# Altium schematic symbol library TMP300.SchLib: 1 symbol
Pins are listed as number, name and electrical type; pins without a type are passive.

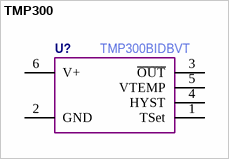
[diagram p0: symbol TMP300]

## TMP300
designator U?  Manufacturer Part Number: TMP300BIDBVT  (hidden comment: TMP300)
pins: 1 TSet, 2 GND (power), 3 ~{OUT} (oc), 4 HYST, 5 VTEMP, 6 V+ (power)